# EAGLE library part CH340G (library bt_communication)
CH340G USB to UART Bridge Controller CH340 is a USB converter chip, which converts USB to serial UART interface or to printer interface. In UART mode, CH340 provides common MODEM interface signals, to expand UART interface of computer or upgrade common serial communication devices to USB directly. For more information about converting USB to printer interface, please refer to the datasheet. Datasheet: CH340.pdf <http://wch-ic.com/products/CH340.html>
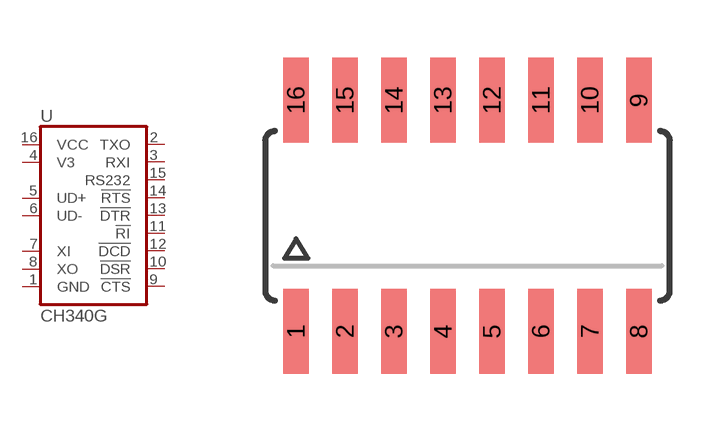
[diagram p4: symbol with the pads of SOIC16N; footprint SOIC16N]

Designator prefix U

## CH340G  [SOIC16N]
1  GND
2  TXO
3  RXI
4  V3
5  UD+
6  UD-
7  XI
8  XO
9  !CTS
10  !DSR
11  !RI
12  !DCD
13  !DTR
14  !RTS
15  RS232
16  VCC

## Footprint SOIC16N (pad centres in mm)
SOIC16N
smd 0.66 x 2.2: 1 -4.445,-3; 2 -3.175,-3; 3 -1.905,-3; 4 -0.635,-3; 5 0.635,-3; 6 1.905,-3; 7 3.175,-3; 8 4.445,-3; 9 4.445,3; 10 3.175,3; 11 1.905,3; 12 0.635,3; 13 -0.635,3; 14 -1.905,3; 15 -3.175,3; 16 -4.445,3